# Altium footprint library PcbLib3.PcbLib: 35 footprints (part 2 of 3)
Each footprint in its own frame and in the unit in brackets; x right, y up, seen from the top. Pads: shape width x height; smd on the part's side, far side on the other; paste and mask are expansions set on the pad; w line width, h text height; cw(c..) or ccw(c..) is an arc to the next point about the centre after c.
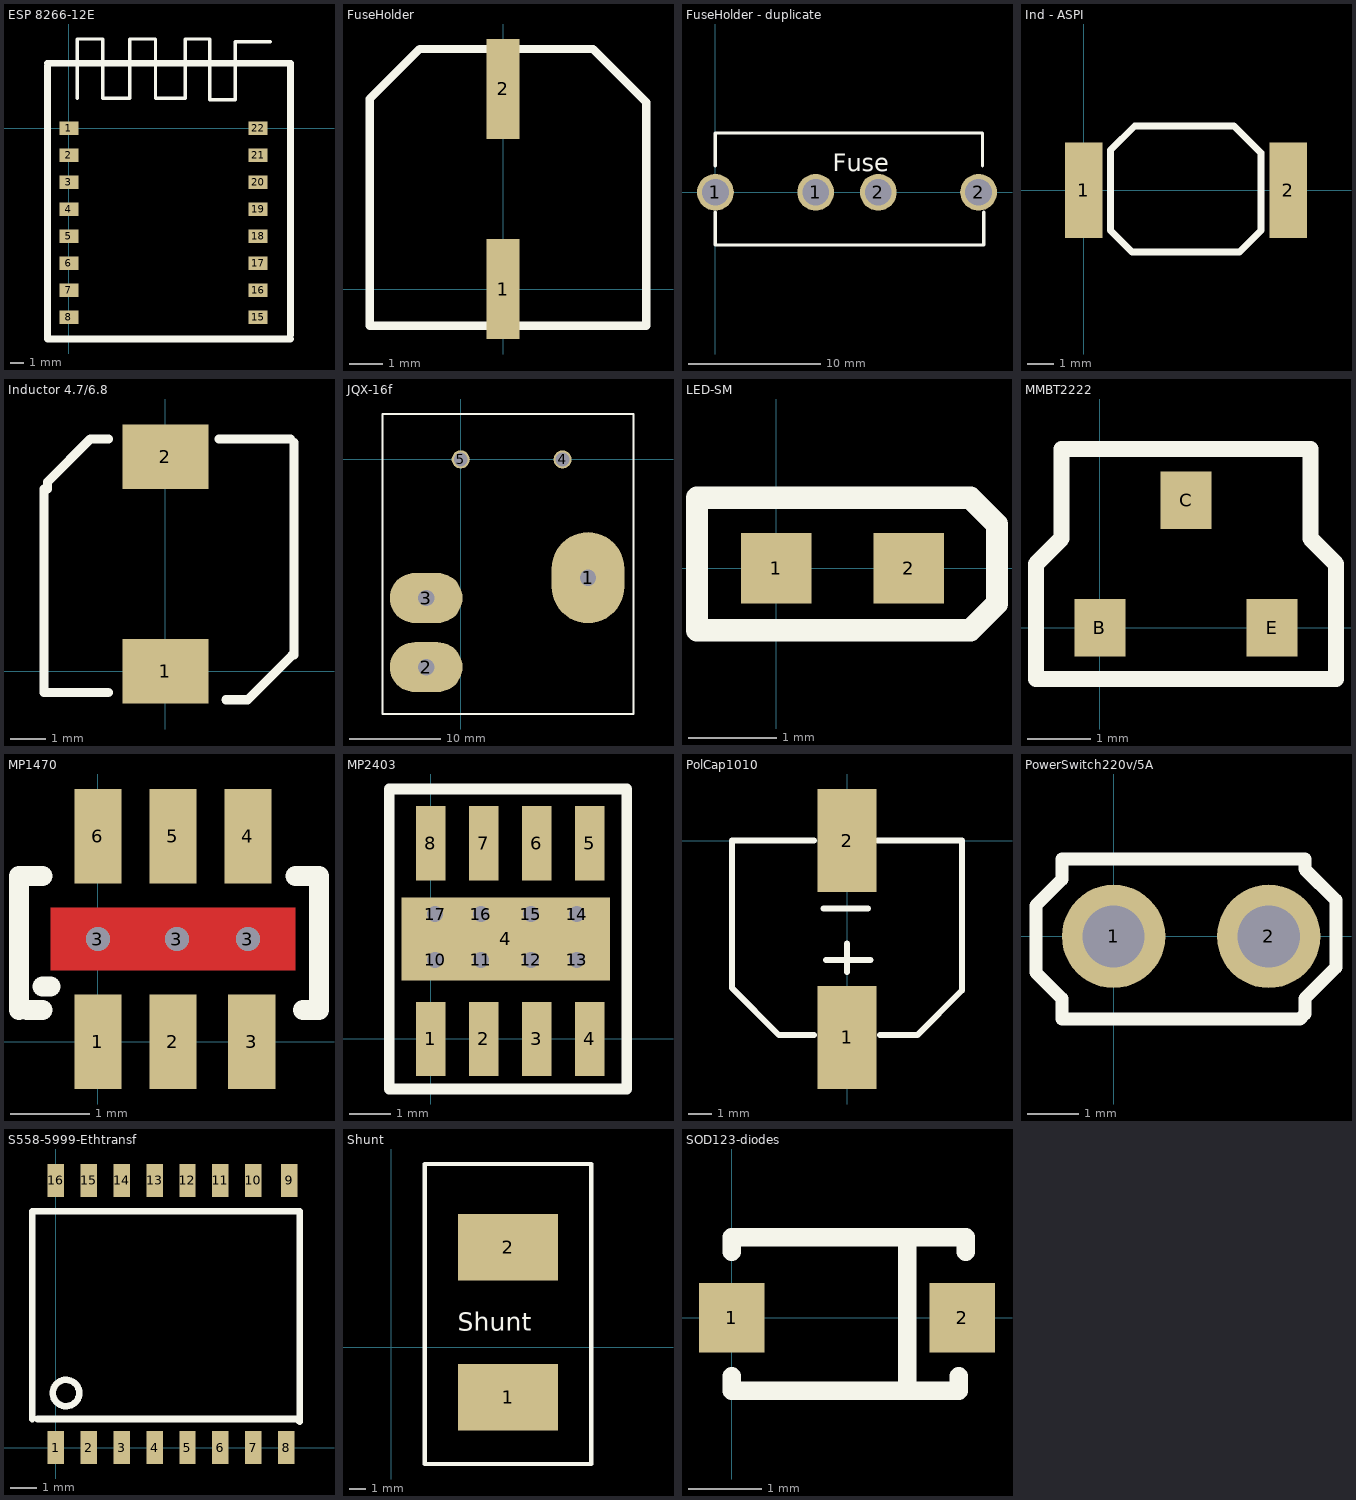
[diagram p1: the footprints below, top view; thin cyan lines are the x and y axes]

## ESP 8266-12E [mm]
pads (16):
  rect 1.4x1 smd: 1(0,0) 2(0,-2) 3(0,-4) 4(0,-6) 5(0,-8) 6(0,-10) 7(0,-12) 8(0,-14) 15(14,-14) 16(14,-12) 17(14,-10) 18(14,-8) 19(14,-6) 20(14,-4) 21(14,-2) 22(14,0)
Top Overlay:
  lines w0.254: -1.5,-15.6 16.4,-15.6 ; 0.6,2.2 0.6,6.6 2.4,6.6 ; 2.5,6.6 2.5,2.2 4.5,2.2 4.5,6.6 6.3,6.6 ; 6.4,6.6 6.4,2.2 8.1,2.2 8.6,2.2 8.6,6.6 10.4,6.6 10.4,2.1 12.3,2.1 12.3,6.4 14.9,6.4
  lines w0.5: -1.6,4.6 -1.6,-15.6 16.4,-15.6 ; -1.6,4.8 2.9,4.8 11.9,4.8 16.4,4.8 ; 16.4,-15.3 16.4,4.7

## FuseHolder [mm]
pads (2):
  rect 1x3 smd: 1(0,0) 2(0,6)
Top Overlay:
  lines w0.254: -4,-1.1 4.3,-1.1 4.3,5.6 2.7,7.2 -2.5,7.2 -4,5.7 -4,-1.1

## FuseHolder - duplicate [mil]
pads (4):
  round 110 hole 80: 1(0,0) 1(300,0) 2(487.4,0) 2(787.4,0)
Top Overlay:
  lines w10: 0,-59.06 0,-157.48 803.15,-157.48 803.15,-59.06 ; 0,78.74 0,177.17 799.21,177.17 799.21,78.74
  text "Fuse" at 350.39,62.99 h52.13

## Ind - ASPI [mm] "Inductor PS"
pads (2):
  rect 1.4x3.56 smd: 1(0,0) 2(7.62,0)
Top Overlay:
  lines w0.254: 1,-1.5 1,1.5 1.9,2.4 5.6,2.4 6.6,1.4 6.6,-1.5 5.8,-2.3 4.65,-2.3 2.95,-2.3 1.8,-2.3 1,-1.5

## Inductor 4.7/6.8 [mm] "Bourns"
pads (2):
  rect 2.4x1.8 smd: 1(0,0) 2(0,6)
Top Overlay:
  lines w0.254: -3.4,5.1 -3.4,-0.6 -1.6,-0.6 ; -3.3,5.1 -3.3,5.3 -2.1,6.5 -1.6,6.5 ; 1.5,6.5 3.5,6.5 ; 1.7,-0.8 2.3,-0.8 3.55,0.45 ; 3.6,0.45 3.6,6.4

## JQX-16f [mm] "power relay"
pads (5):
  oval 8x10 hole 1.8: 1(14,-13)
  oval 8x5.5 hole 1.8: 2(-3.8,-22.84) 3(-3.8,-15.24)
  round 2 hole 1.5: 4(11.2,0) 5(0,0)
Top Overlay:
  lines w0.254: -8.6,-28 19,-28 19,-20.25 19,-5.75 19,5 -8.6,5 -8.6,-28

## LED-SM [mm]
pads (2):
  rect 0.8x0.8 smd: 1(0,0) 2(1.5,0)
Top Overlay:
  lines w0.254: -0.9,-0.7 2.2,-0.7 2.5,-0.4 2.5,0.5 2.2,0.8 -0.9,0.8 -0.9,-0.7

## MMBT2222 [mm]
pads (3):
  rect 0.8x0.9 smd: B(0,0) C(1.35,2) E(2.7,0)
Top Overlay:
  lines w0.254: -1,-0.8 -0.6,-0.8 3.3,-0.8 3.7,-0.8 3.7,1 3.3,1.4 3.3,1.6 3.3,2.8 -0.6,2.8 -0.6,1.4 -1,1 -1,-0.8

## MP1470 [mm] "Power  Supply IC"
pads (9):
  rect 0.6x1.2 smd: 1(0,0) 2(0.95,0) 3(1.95,0) 4(1.9,2.6) 5(0.95,2.6) 6(0,2.6)
  round 0.305 hole 0.305: 3(0,1.3) 3(1,1.3) 3(1.9,1.3)
Top Layer:
  rectangle: -0.6,0.9 2.5,1.7
Top Overlay:
  lines w0.254: -1,0.4 -1,2.1 -0.7,2.1 ; -0.9,0.4 -0.7,0.4 ; -0.7,0.7 -0.6,0.7 ; 2.5,2.1 2.8,2.1 2.8,0.4 2.6,0.4

## MP2403 [mil]
pads (17):
  rect 28x70 smd: 1(0,0) 2(50,0) 3(100,0) 4(150,0) 5(150,185) 6(100,185) 7(50,185) 8(0,185)
  rect 196.85x78.74 smd: 4(70.87,94.49)
  round 25 hole 15: 10(3.94,74.8) 11(47.24,74.8) 12(94.49,74.8) 13(137.8,74.8) 14(137.8,118.11) 15(94.49,118.11) 16(47.24,118.11) 17(3.94,118.11)
Top Overlay:
  lines w10: -39.37,-47.24 185.04,-47.24 185.04,236.22 -39.37,236.22 -39.37,-47.24

## PCBComponent_1 [mm]

## PolCap1010 [mm] "Pol Cap 10x10x10"
height 10
pads (2):
  rect 2.5x4.4 smd: 1(0,-8.4) 2(0,0)
Top Overlay:
  lines w0.254: -1.4,-8.3 -2.9,-8.3 -4.9,-6.3 -4.9,0 -1.4,0 ; -1,-2.9 0.9,-2.9 ; -0.9,-5.1 1,-5.1 ; 0,-5.6 0,-4.4 ; 1.3,0 4.9,0 4.9,-6.3 4.9,-6.4 3,-8.3 1.4,-8.3

## PowerSwitch220v/5A [mm]
pads (2):
  round 2 hole 1.2: 1(0,0) 2(3,0)
Top Overlay:
  lines w0.254: -1.5,-0.7 -1.5,0.6 -1,1.1 -1,1.5 3.7,1.5 3.7,1.3 4.3,0.7 4.3,-0.6 3.7,-1.2 3.7,-1.5 3.6,-1.6 3.5,-1.6 -1,-1.6 -1,-1.2 -1.5,-0.7

## S558-5999-Ethtransf [mil]
pads (16):
  rect 25x50 smd: 1(0,0) 2(50,0) 3(100,0) 4(150,0) 5(200,0) 6(250,0) 7(300,0) 8(350,0) 9(354.33,405) 10(300,405) 11(250,405) 12(200,405) 13(150,405) 14(100,405) 15(50,405) 16(0,405)
Top Overlay:
  circle w10: c15.75,82.68 r20.07
  region: 86.61,177.17
  region: 86.61,177.17
  region: 86.61,177.17
  region: 86.61,177.17
  region: 86.61,177.17
  region: 86.61,177.17
  region: 86.61,7.87
  region: 86.61,7.87
  region: 86.61,7.87
  region: 86.61,7.87
  region: 86.61,7.87
  region: 86.61,7.87
  lines w10: -35.43,43.31 -35.43,358.27 370.08,358.27 370.08,39.37 366.14,43.31 -27.56,43.31

## Shunt [mm]
pads (2):
  rect 6x4 smd: 1(7,-3) 2(7,6)
Top Overlay:
  lines w0.254: 2,-7 12,-7 12,11 2,11 2,-7
  text "Shunt" at 4,1 h1.1

## SOD123-diodes [mm]
pads (2):
  rect 0.9x0.95 smd: 1(0,0) 2(3.15,0)
Top Overlay:
  lines w0.254: 0,-0.8 0,-1 3.1,-1 3.1,-0.8 ; 0,0.9 0,1.1 3.2,1.1 3.2,0.9 ; 2.4,-1 2.4,1.1